# EAGLE library part JST_SH_6-PIN_HORI (library tecsmith-jst)
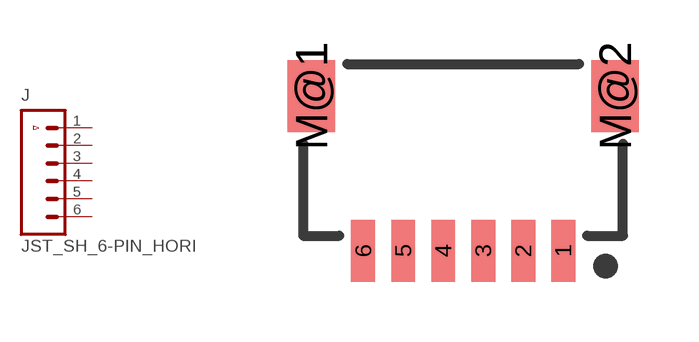
[diagram p0: symbol with the pads of JST-SH-6-SMD-HORI-1.0MM; footprint JST-SH-6-SMD-HORI-1.0MM]

Designator prefix J

## JST_SH_6-PIN_HORI  [JST-SH-6-SMD-HORI-1.0MM]
1  1  pas
2  2  pas
3  3  pas
4  4  pas
5  5  pas
6  6  pas
M@1  M  pas
M@2  M  pas

## Footprint JST-SH-6-SMD-HORI-1.0MM (pad centres in mm)
smd 0.6 x 1.55: 1 2.5,-2.775; 2 1.5,-2.775; 3 0.5,-2.775; 4 -0.5,-2.775; 5 -1.5,-2.775; 6 -2.5,-2.775
smd 1.2 x 1.8: M@1 -3.8,1.1; M@2 3.8,1.1